# Altium schematic symbol library Transistors.SchLib: 1 symbol
Pins are listed as number, name and electrical type; pins without a type are passive.

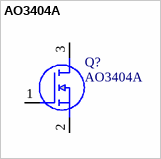
[diagram p0: symbol AO3404A]

## AO3404A
designator Q?
MOSFET N-CH 30V 5.8A SOT23; Manufacturer_Name: Alpha & Omega Semiconductors; Geometry.Height: 1.25mm; Manufacturer_Part_Number: AO3404A; RS Part Number: *; RS Price/Stock: *; Mouser Part Number: *; Mouser Price/Stock: *; Datasheet Link: http://aosmd.com/res/data_sheets/AO3404A.pdf
footprint SOT95P280X125-3N
pins: 1 G, 2 S, 3 D